# Altium schematic symbol library SPI_OLED_SSD1306.SchLib: 1 symbol
Pins are listed as number, name and electrical type; pins without a type are passive.

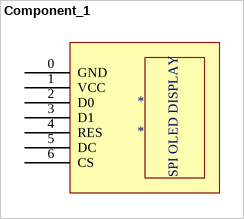
[diagram p0: symbol Component_1]

## Component_1
designator *
pins: 0 GND, 1 VCC, 2 D0, 3 D1, 4 RES, 5 DC, 6 CS
text: SPI OLED DISPLAY